# EAGLE library part RPI-PADS (library Passives)
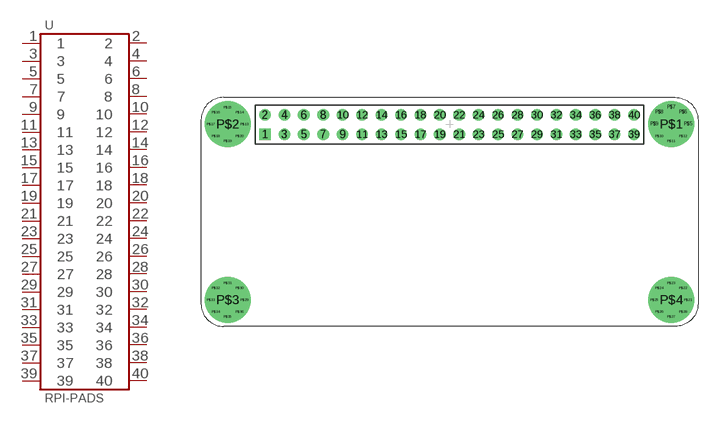
[diagram p12: symbol with the pads of RPI_ZERO; footprint RPI_ZERO]

Designator prefix -

## RPI-PADS  [RPI_ZERO]
1  1
2  2
3  3
4  4
5  5
6  6
7  7
8  8
9  9
10  10
11  11
12  12
13  13
14  14
15  15
16  16
17  17
18  18
19  19
20  20
21  21
22  22
23  23
24  24
25  25
26  26
27  27
28  28
29  29
30  30
31  31
32  32
33  33
34  34
35  35
36  36
37  37
38  38
39  39
40  40

## Footprint RPI_ZERO (pad centres in mm)
drill 1.016 square: 1 -24.13,10.16
drill 1.016: 2 -24.13,12.7; 3 -21.59,10.16; 4 -21.59,12.7; 5 -19.05,10.16; 6 -19.05,12.7; 7 -16.51,10.16; 8 -16.51,12.7; 9 -13.97,10.16; 10 -13.97,12.7; 11 -11.43,10.16; 12 -11.43,12.7; 13 -8.89,10.16; 14 -8.89,12.7; 15 -6.35,10.16; 16 -6.35,12.7; 17 -3.81,10.16; 18 -3.81,12.7; 19 -1.27,10.16; 20 -1.27,12.7; 21 1.27,10.16; 22 1.27,12.7; 23 3.81,10.16; 24 3.81,12.7; 25 6.35,10.16; 26 6.35,12.7; 27 8.89,10.16; 28 8.89,12.7; 29 11.43,10.16; 30 11.43,12.7; 31 13.97,10.16; 32 13.97,12.7; 33 16.51,10.16; 34 16.51,12.7; 35 19.05,10.16; 36 19.05,12.7; 37 21.59,10.16; 38 21.59,12.7; 39 24.13,10.16; 40 24.13,12.7
drill 2.8 pad 6: P$1 29,11.5; P$2 -29,11.5; P$3 -29,-11.5; P$4 29,-11.5
drill 0.5: P$5 31.2,11.5; P$6 30.556,13.056; P$7 29,13.7; P$8 27.444,13.056; P$9 26.8,11.5; P$10 27.444,9.944; P$11 29,9.3; P$12 30.556,9.944; P$13 -26.8,11.5; P$14 -27.444,13.056; P$15 -29,13.7; P$16 -30.556,13.056; P$17 -31.2,11.5; P$18 -30.556,9.944; P$19 -29,9.3; P$20 -27.444,9.944; P$21 31.2,-11.5; P$22 30.556,-9.944; P$23 29,-9.3; P$24 27.444,-9.944; P$25 26.8,-11.5; P$26 27.444,-13.056; P$27 29,-13.7; P$28 30.556,-13.056; P$29 -26.8,-11.5; P$30 -27.444,-9.944; P$31 -29,-9.3; P$32 -30.556,-9.944; P$33 -31.2,-11.5; P$34 -30.556,-13.056; P$35 -29,-13.7; P$36 -27.444,-13.056